# Altium footprint library CN_SOCKET_SIL4.PcbLib: 1 footprints
Each footprint in its own frame and in the unit in brackets; x right, y up, seen from the top. Pads: shape width x height; smd on the part's side, far side on the other; paste and mask are expansions set on the pad; w line width, h text height; cw(c..) or ccw(c..) is an arc to the next point about the centre after c.
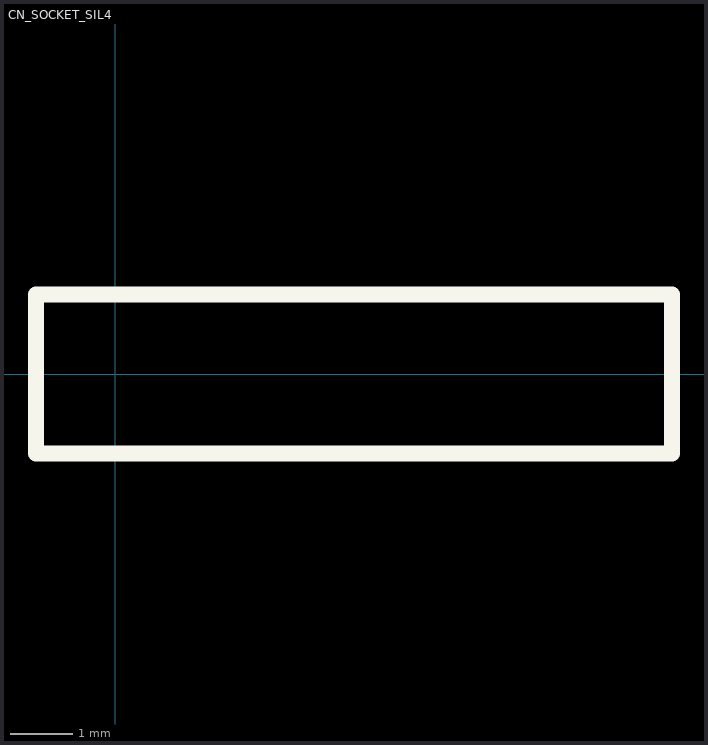
[diagram p0: the footprint, top view; thin cyan lines are the x and y axes]

## CN_SOCKET_SIL4 [mm] "Socket, with machined contacts, 1-row, DIP, 4 contacts, Plating sleeve : Flash Gold"
Top Overlay:
  lines w0.254: -1.27,-1.27 8.89,-1.27 8.89,1.27 -1.27,1.27 -1.27,-1.27
3D body: height 4.53, standoff -2.89, extent -1.27,-1.27 8.89,1.27